# Altium footprint library Miscellaneous.PcbLib: 24 footprints (part 1 of 2)
Each footprint in its own frame and in the unit in brackets; x right, y up, seen from the top. Pads: shape width x height; smd on the part's side, far side on the other; paste and mask are expansions set on the pad; w line width, h text height; cw(c..) or ccw(c..) is an arc to the next point about the centre after c.
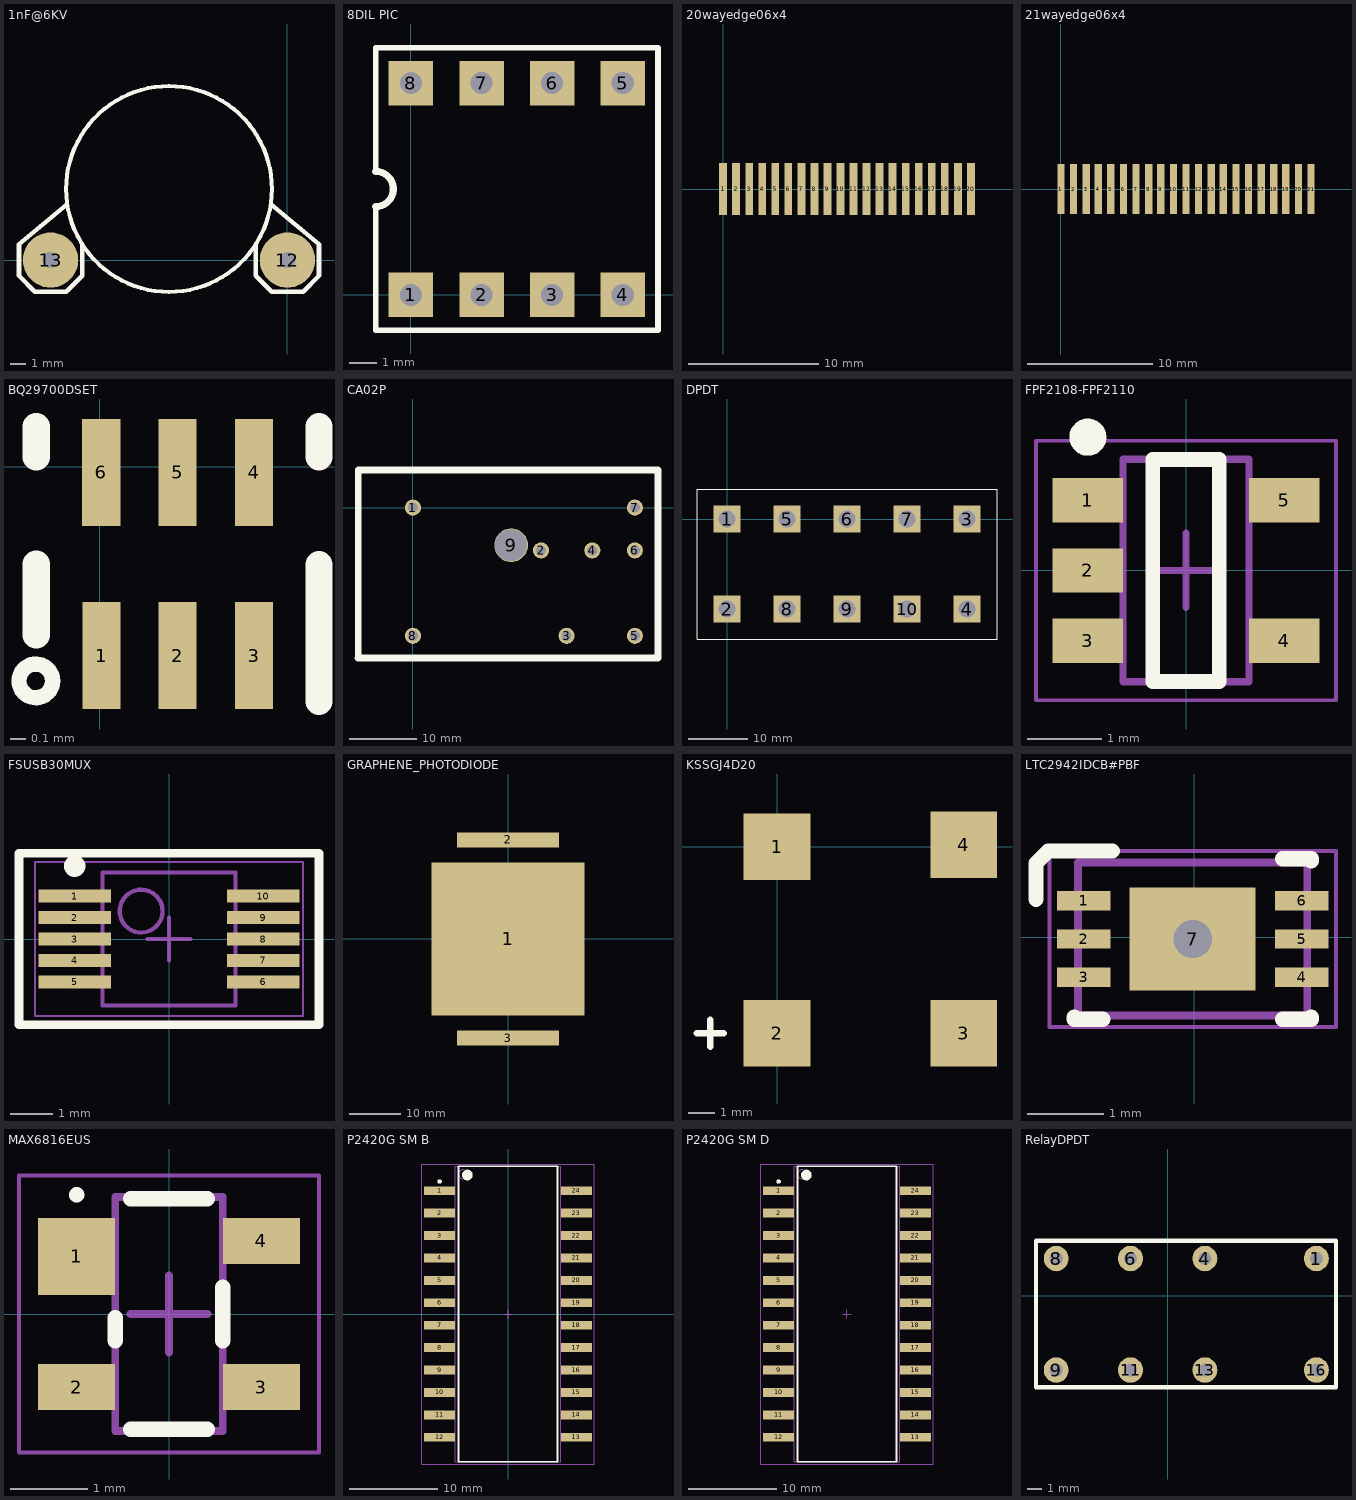
[diagram p0: the footprints below, top view; thin cyan lines are the x and y axes]

## 1nF@6KV [mm]
pads (2):
  round 3.5 hole 1: 12(0,0) 13(-15,0)
Top Overlay:
  circle w0.254: c-7.5,4.5 r6.519
  lines w0.3: -14,3.5 -17,1 -17,-1 -16,-2 -14,-2 -13,-1 -13,1 ; -2,1 -2,-1 -1,-2 1,-2 2,-1 2,1 -1,3.5

## 8DIL PIC [mm]
pads (8):
  rect 1.6x1.6 hole 0.8: 1(0,0) 2(2.54,0) 3(5.08,0) 4(7.62,0) 5(7.62,7.62) 6(5.08,7.62) 7(2.54,7.62) 8(0,7.62)
Top Overlay:
  lines w0.2: -1.27,3.175 -1.27,-1.27 8.89,-1.27 8.89,8.89 -1.27,8.89 -1.27,4.445
  lines w0.254: -1.27,3.175 ccw(c-1.27,3.81) -1.27,4.445

## 20wayedge06x4 [mm]
pads (20):
  rect 0.6x4 smd: 1(0,0) 2(1,0) 3(2,0) 4(3,0) 5(4,0) 6(5,0) 7(6,0) 8(7,0) 9(8,0) 10(9,0) 11(10,0) 12(11,0) 13(12,0) 14(13,0) 15(14,0) 16(15,0) 17(16,0) 18(17,0) 19(18,0) 20(19,0)

## 21wayedge06x4 [mm]
pads (21):
  rect 0.6x4 smd: 1(0,0) 2(1,0) 3(2,0) 4(3,0) 5(4,0) 6(5,0) 7(6,0) 8(7,0) 9(8,0) 10(9,0) 11(10,0) 12(11,0) 13(12,0) 14(13,0) 15(14,0) 16(15,0) 17(16,0) 18(17,0) 19(18,0) 20(19,0) 21(20,0)

## BQ29700DSET [mm] "Battery protection"
pads (6):
  rect 0.25x0.7 smd paste+0 mask+0.051: 1(0.01,-1.235) 2(0.508,-1.235) 3(1.008,-1.235) 4(1.008,-0.035) 5(0.508,-0.035) 6(0.008,-0.035)
Top Overlay:
  circle w0.1: c-0.42,-1.4 r0.11
  lines w0.178: -0.417,-1.1 -0.417,-0.635 ; -0.417,0.065 -0.417,0.265 ; 1.433,-1.535 1.433,-0.64 ; 1.433,0.065 1.433,0.265
3D body "BQ29700DSET.stp": height 0.77, standoff -0.03, extent -0.23,-1.385 1.27,0.115

## CA02P [mm] "emco HV module"
height 14
pads (9):
  round 2.4 hole 1.5: 1(0,0) 2(19.05,-6.35) 3(22.86,-19.05) 4(26.67,-6.35) 5(33.02,-19.05) 6(33.02,-6.35) 7(33.02,0) 8(0,-19.05)
  round 5 hole 4.75: 9(14.61,-5.59)
Top Overlay:
  lines w1: -8.175,-22.35 36.45,-22.35 36.45,5.6 -8.125,5.6 ; -8.15,-22.35 -8.15,5.425

## DPDT [mm] "5V 15A Realy"
height 21
pads (10):
  rect 4.5x4.5 hole 2.8: 1(0,0) 2(0,-15.24) 3(40.64,0) 4(40.64,-15.24) 5(10.16,0) 6(20.32,0) 7(30.48,0) 8(10.16,-15.24) 9(20.32,-15.24) 10(30.48,-15.24)
Top Overlay:
  lines w0.2: -5.08,-20.32 -5.08,5.08 45.72,5.08 45.72,-20.32 20.32,-20.32 -5.08,-20.32

## FPF2108-FPF2110 [mm] "current limit 200mA"
height 1.4
pads (5):
  rect 0.95x0.6 smd: 1(-1.325,0.95) 2(-1.325,0) 3(-1.325,-0.95) 4(1.325,-0.95) 5(1.325,0.95)
Top Overlay:
  circle w0.25: c-1.325,1.8 r0.125
  lines w0.2: -0.45,-1.5 -0.45,1.5 0.45,1.5 0.45,-1.5 -0.45,-1.5
Mechanical 13:
  lines w0.1: -0.85,-1.5 0.85,-1.5 0.85,1.5 -0.85,1.5 -0.85,-1.5
Mechanical 15:
  lines w0.05: -2.025,-1.75 2.025,-1.75 2.025,1.75 -2.025,1.75 -2.025,-1.75
  lines w0.1: -0.5,0 0.5,0 ; 0,-0.5 0,0.5
3D body "FPF2108-FPF2110.step": height 1.4, standoff 0, extent -1.4,-1.5 1.4,1.5

## FSUSB30MUX [mm] "current limit 200mA"
height 0.95
pads (10):
  rect 1.7x0.3 smd: 1(-2.2,1) 2(-2.2,0.5) 3(-2.2,0) 4(-2.2,-0.5) 5(-2.2,-1) 6(2.2,-1) 7(2.2,-0.5) 8(2.2,0) 9(2.2,0.5) 10(2.2,1)
Top Overlay:
  circle w0.25: c-2.2,1.7 r0.125
  lines w0.2: -3.5,-2 3.5,-2 3.5,2 -3.5,2 -3.5,-2
Mechanical 13:
  circle w0.1: c-0.65,0.65 r0.5
  lines w0.1: -1.55,-1.55 1.55,-1.55 1.55,1.55 -1.55,1.55 -1.55,-1.55
Mechanical 15:
  lines w0.05: -3.125,-1.8 3.125,-1.8 3.125,1.8 -3.125,1.8 -3.125,-1.8
  lines w0.1: -0.5,0 0.5,0 ; 0,-0.5 0,0.5
3D body "SOP127P600-8N.step": height 0.95, standoff 0, extent -2.45,-1.55 2.45,1.55

## GRAPHENE_PHOTODIODE [mm]
pads (3):
  rect 30x30 smd: 1(0,0)
  rect 20x3 smd: 2(0,19.471) 3(0,-19.482)

## KSSGJ4D20 [mm] "SMD Magnetic Buzzer"
pads (4):
  rect 2.5x2.5 smd: 1(0,0) 2(0,-7) 3(7,-7) 4(7,0.07)
Top Overlay:
  lines w0.254: -3,-7 -2,-7 ; -2.5,-7.5 -2.5,-6.5
3D body: height 3.2, standoff 0, extent -0.87,-7.93 7.85,1

## LTC2942IDCB#PBF [mm] "Battery fuel guage"
pads (7):
  rect 0.7x0.25 smd mask+0.05: 1(-1.445,0.48) 2(-1.445,-0.02) 3(-1.445,-0.52) 4(1.405,-0.52) 5(1.405,-0.02) 6(1.405,0.48)
  rect 1.65x1.35 smd mask+0.05: 7(-0.02,-0.02)
via -0.02,-0.02 diameter 1 hole 0.5
Top Overlay:
  lines w0.2: -2.07,0.5 -2.07,0.97 ; -2.06,0.98 -1.91,1.13 ; -1.87,1.13 -1.07,1.13 ; -1.57,-1.045 -1.57,-1.07 -1.195,-1.07 ; 1.155,-1.07 1.53,-1.07 1.53,-1.045 ; 1.155,1.03 1.53,1.03 1.53,1.005
Mechanical 13:
  lines w0.1: -1.52,-1.02 -1.52,0.98 1.48,0.98 1.48,-1.02 -1.52,-1.02
Mechanical 15:
  lines w0.05: -1.895,-1.17 -1.895,1.13 1.855,1.13 1.855,-1.17 -1.895,-1.17
  lines w0.1: -0.52,-0.02 0.48,-0.02 ; -0.02,-0.52 -0.02,0.48
3D body: height 0.8, standoff 0, extent -1.52,-1.02 1.48,0.98

## MAX6816EUS [mm]
height 1.22
pads (4):
  rect 1x1 smd: 1(-1.2,0.75)
  rect 1x0.6 smd: 2(-1.2,-0.95) 3(1.2,-0.95) 4(1.2,0.95)
Top Overlay:
  circle w0.1: c-1.2,1.55 r0.05
  lines w0.2: -0.7,-0.35 -0.7,-0.05 ; -0.5,-1.5 0.5,-1.5 ; -0.5,1.5 0.5,1.5 ; 0.7,-0.35 0.7,0.35
Mechanical 13:
  lines w0.1: -0.7,-1.52 -0.7,1.52 0.7,1.52 0.7,-1.52 -0.7,-1.52
Mechanical 15:
  lines w0.05: -1.95,-1.8 -1.95,1.8 1.95,1.8 1.95,-1.8 -1.95,-1.8
  lines w0.1: -0.5,0 0.5,0 ; 0,-0.5 0,0.5
3D body "MAX6816EUS.step": height 1.22, standoff 0.02, extent -1.242,-1.52 1.242,1.52

## P2420G SM B [mm] "delay line B"
height 7.66
pads (24):
  rect 3.5x1 smd: 1(-7.75,13.97) 2(-7.75,11.43) 3(-7.75,8.89) 4(-7.75,6.35) 5(-7.75,3.81) 6(-7.75,1.27) 7(-7.75,-1.27) 8(-7.75,-3.81) 9(-7.75,-6.35) 10(-7.75,-8.89) 11(-7.75,-11.43) 12(-7.75,-13.97) 13(7.75,-13.97) 14(7.75,-11.43) 15(7.75,-8.89) 16(7.75,-6.35) 17(7.75,-3.81) 18(7.75,-1.27) 19(7.75,1.27) 20(7.75,3.81) 21(7.75,6.35) 22(7.75,8.89) 23(7.75,11.43) 24(7.75,13.97)
Top Overlay:
  circle w0.6: c-4.6,15.75 r0.3
  circle w0.25: c-7.75,15.02 r0.125
  lines w0.2: -5.6,-16.75 5.6,-16.75 5.6,16.75 -5.6,16.75 -5.6,-16.75
Mechanical 13:
  circle w0.1: c-5.1,15.85 r0.5
  lines w0.1: -6,-16.75 6,-16.75 6,16.75 -6,16.75 -6,-16.75
Mechanical 15:
  lines w0.05: -9.75,-17 9.75,-17 9.75,17 -9.75,17 -9.75,-17
  lines w0.1: -0.5,0 0.5,0 ; 0,-0.5 0,0.5
3D body "P2420G SM B.step": height 7.66, standoff 0, extent -8.325,-16.75 8.325,16.75

## P2420G SM D [mm] "SOP, 24-Leads, Body 33.25x11.00mm, Pitch 2.54mm, IPC Medium Density"
height 7.66
pads (24):
  rect 3.5x1 smd: 1(-69.75,125.73) 2(-69.75,123.19) 3(-69.75,120.65) 4(-69.75,118.11) 5(-69.75,115.57) 6(-69.75,113.03) 7(-69.75,110.49) 8(-69.75,107.95) 9(-69.75,105.41) 10(-69.75,102.87) 11(-69.75,100.33) 12(-69.75,97.79) 13(-54.25,97.79) 14(-54.25,100.33) 15(-54.25,102.87) 16(-54.25,105.41) 17(-54.25,107.95) 18(-54.25,110.49) 19(-54.25,113.03) 20(-54.25,115.57) 21(-54.25,118.11) 22(-54.25,120.65) 23(-54.25,123.19) 24(-54.25,125.73)
Top Overlay:
  circle w0.6: c-66.6,127.51 r0.3
  circle w0.25: c-69.75,126.78 r0.125
  lines w0.2: -67.6,95.01 -56.4,95.01 -56.4,128.51 -67.6,128.51 -67.6,95.01
Mechanical 13:
  circle w0.1: c-67.1,127.61 r0.5
  lines w0.1: -68,95.01 -56,95.01 -56,128.51 -68,128.51 -68,95.01
Mechanical 15:
  lines w0.05: -71.75,94.76 -52.25,94.76 -52.25,128.76 -71.75,128.76 -71.75,94.76
  lines w0.1: -62.5,111.76 -61.5,111.76 ; -62,111.26 -62,112.26
3D body "P2420G SM D.step": height 7.66, standoff 0, extent -70.325,95.01 -53.675,128.51

## RelayDPDT [mm]
pads (8):
  oval 1.7x1.74 hole 0.9: 1(10.16,2.54) 4(2.54,2.54) 6(-2.54,2.54) 8(-7.62,2.54) 9(-7.62,-5.08) 11(-2.54,-5.08) 13(2.54,-5.08) 16(10.16,-5.08)
Top Overlay:
  lines w0.3: -9,-6.25 -9,3.75 11.5,3.75 11.5,-6.25 -9,-6.25
3D body "relay DPDT.stp": height 11, standoff -3.2, extent -8.85,-6.25 11.35,3.75